# Altium footprint library PCB - LEADLESS - QFN - QORVO TAT8804D1H.PcbLib: 1 footprints
Each footprint in its own frame and in the unit in brackets; x right, y up, seen from the top. Pads: shape width x height; smd on the part's side, far side on the other; paste and mask are expansions set on the pad; w line width, h text height; cw(c..) or ccw(c..) is an arc to the next point about the centre after c.
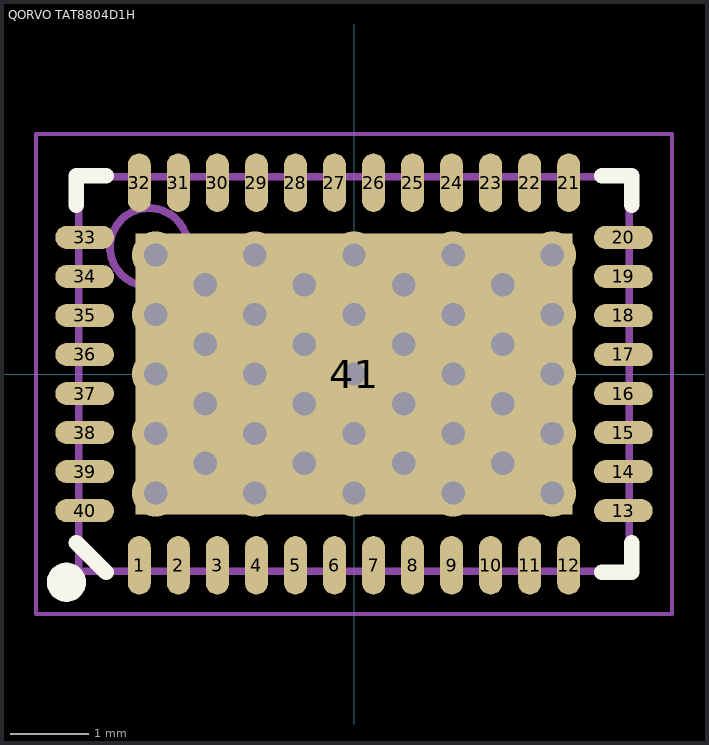
[diagram p0: the footprint, top view; thin cyan lines are the x and y axes]

## QORVO TAT8804D1H [mm] "QFN, 40-Leads, Body 7.00x5.00mm, Pitch 0.50mm, Thermal Pad 5.60x3.60mm"
height 0.9
pads (41):
  oval 0.295x0.75 smd: 1(-2.75,-2.45) 2(-2.25,-2.45) 3(-1.75,-2.45) 4(-1.25,-2.45) 5(-0.75,-2.45) 6(-0.25,-2.45) 7(0.25,-2.45) 8(0.75,-2.45) 9(1.25,-2.45) 10(1.75,-2.45) 11(2.25,-2.45) 12(2.75,-2.45) 21(2.75,2.45) 22(2.25,2.45) 23(1.75,2.45) 24(1.25,2.45) 25(0.75,2.45) 26(0.25,2.45) 27(-0.25,2.45) 28(-0.75,2.45) 29(-1.25,2.45) 30(-1.75,2.45) 31(-2.25,2.45) 32(-2.75,2.45)
  oval 0.75x0.295 smd: 13(3.45,-1.75) 14(3.45,-1.25) 15(3.45,-0.75) 16(3.45,-0.25) 17(3.45,0.25) 18(3.45,0.75) 19(3.45,1.25) 20(3.45,1.75) 33(-3.45,1.75) 34(-3.45,1.25) 35(-3.45,0.75) 36(-3.45,0.25) 37(-3.45,-0.25) 38(-3.45,-0.75) 39(-3.45,-1.25) 40(-3.45,-1.75)
  rect 5.6x3.6 smd: 41(0,0)
via 0,0 diameter 0.6 hole 0.3
via 0,0.762 diameter 0.6 hole 0.3
via 0,1.524 diameter 0.6 hole 0.3
via 0,-0.762 diameter 0.6 hole 0.3
via 0,-1.524 diameter 0.6 hole 0.3
via -0.635,-0.381 diameter 0.6 hole 0.3
via -0.635,-1.143 diameter 0.6 hole 0.3
via -0.635,0.381 diameter 0.6 hole 0.3
via -0.635,1.143 diameter 0.6 hole 0.3
via -1.27,0 diameter 0.6 hole 0.3
via -1.27,0.762 diameter 0.6 hole 0.3
via -1.27,1.524 diameter 0.6 hole 0.3
via -1.27,-0.762 diameter 0.6 hole 0.3
via -1.27,-1.524 diameter 0.6 hole 0.3
via -1.905,-0.381 diameter 0.6 hole 0.3
via -1.905,-1.143 diameter 0.6 hole 0.3
via -1.905,0.381 diameter 0.6 hole 0.3
via -1.905,1.143 diameter 0.6 hole 0.3
via -2.54,0 diameter 0.6 hole 0.3
via -2.54,0.762 diameter 0.6 hole 0.3
via -2.54,1.524 diameter 0.6 hole 0.3
via -2.54,-0.762 diameter 0.6 hole 0.3
via -2.54,-1.524 diameter 0.6 hole 0.3
via 0.635,-0.381 diameter 0.6 hole 0.3
via 0.635,-1.143 diameter 0.6 hole 0.3
via 0.635,0.381 diameter 0.6 hole 0.3
via 0.635,1.143 diameter 0.6 hole 0.3
via 1.27,0 diameter 0.6 hole 0.3
via 1.27,0.762 diameter 0.6 hole 0.3
via 1.27,1.524 diameter 0.6 hole 0.3
via 1.27,-0.762 diameter 0.6 hole 0.3
via 1.27,-1.524 diameter 0.6 hole 0.3
via 1.905,-0.381 diameter 0.6 hole 0.3
via 1.905,-1.143 diameter 0.6 hole 0.3
via 1.905,0.381 diameter 0.6 hole 0.3
via 1.905,1.143 diameter 0.6 hole 0.3
via 2.54,0 diameter 0.6 hole 0.3
via 2.54,0.762 diameter 0.6 hole 0.3
via 2.54,1.524 diameter 0.6 hole 0.3
via 2.54,-0.762 diameter 0.6 hole 0.3
via 2.54,-1.524 diameter 0.6 hole 0.3
Top Overlay:
  circle w0.25: c-3.683,-2.667 r0.125
  lines w0.2: -3.556,-2.159 -3.175,-2.54 ; -3.556,2.159 -3.556,2.54 -3.175,2.54 ; 3.175,-2.54 3.556,-2.54 3.556,-2.159 ; 3.175,2.54 3.556,2.54 3.556,2.159
Mechanical 13:
  circle w0.1: c-2.625,1.625 r0.5
  lines w0.1: -3.525,-2.525 3.525,-2.525 3.525,2.525 -3.525,2.525 -3.525,-2.525
Mechanical 15:
  lines w0.05: -4.075,-3.075 4.075,-3.075 4.075,3.075 -4.075,3.075 -4.075,-3.075
  lines w0.1: -0.5,0 0.5,0 ; 0,-0.5 0,0.5
3D body "QORVO TAT8804D1H.step": height 0.9, standoff 0, extent -3.535,-2.535 3.535,2.535